# EAGLE library part 6PIN_TARGET (library bt_communication)
6-Pin Serial Target Connector For serial programming of Arduino, serial comms, etc., using FTDI, PL2303.
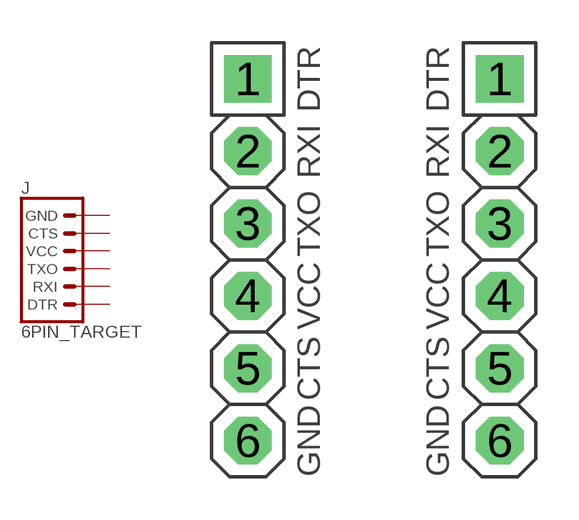
[diagram p3: symbol with the pads of 6PIN_TARGET; footprints 6PIN_TARGET, 6PIN_TARGET_R]

Designator prefix J

## 6PIN_TARGET_LEFT  [6PIN_TARGET]
1  DTR  pas
2  RXI  pas
3  TXO  pas
4  VCC  pas
5  CTS  pas
6  GND  pas

## 6PIN_TARGET_RIGHT  [6PIN_TARGET_R]
Pads as for 6PIN_TARGET

## Footprint 6PIN_TARGET (pad centres in mm)
6-pin target connector for serial, ftdi, pl2303, etc., left edge of board
drill 1.016 pad 1.676 square: 1 0,6.35
drill 1.016 pad 1.676 octagon: 2 0,3.81; 3 0,1.27; 4 0,-1.27; 5 0,-3.81; 6 0,-6.35

## Footprint 6PIN_TARGET_R (pad centres in mm)
6-pin target connector for serial, ftdi, pl2303, etc., right edge of board
drill 1.016 pad 1.676 square: 1 0,6.35
drill 1.016 pad 1.676 octagon: 2 0,3.81; 3 0,1.27; 4 0,-1.27; 5 0,-3.81; 6 0,-6.35